# Altium schematic symbol library TFM_Schematics.SchLib: 30 symbols
Pins are listed as number, name and electrical type; pins without a type are passive.

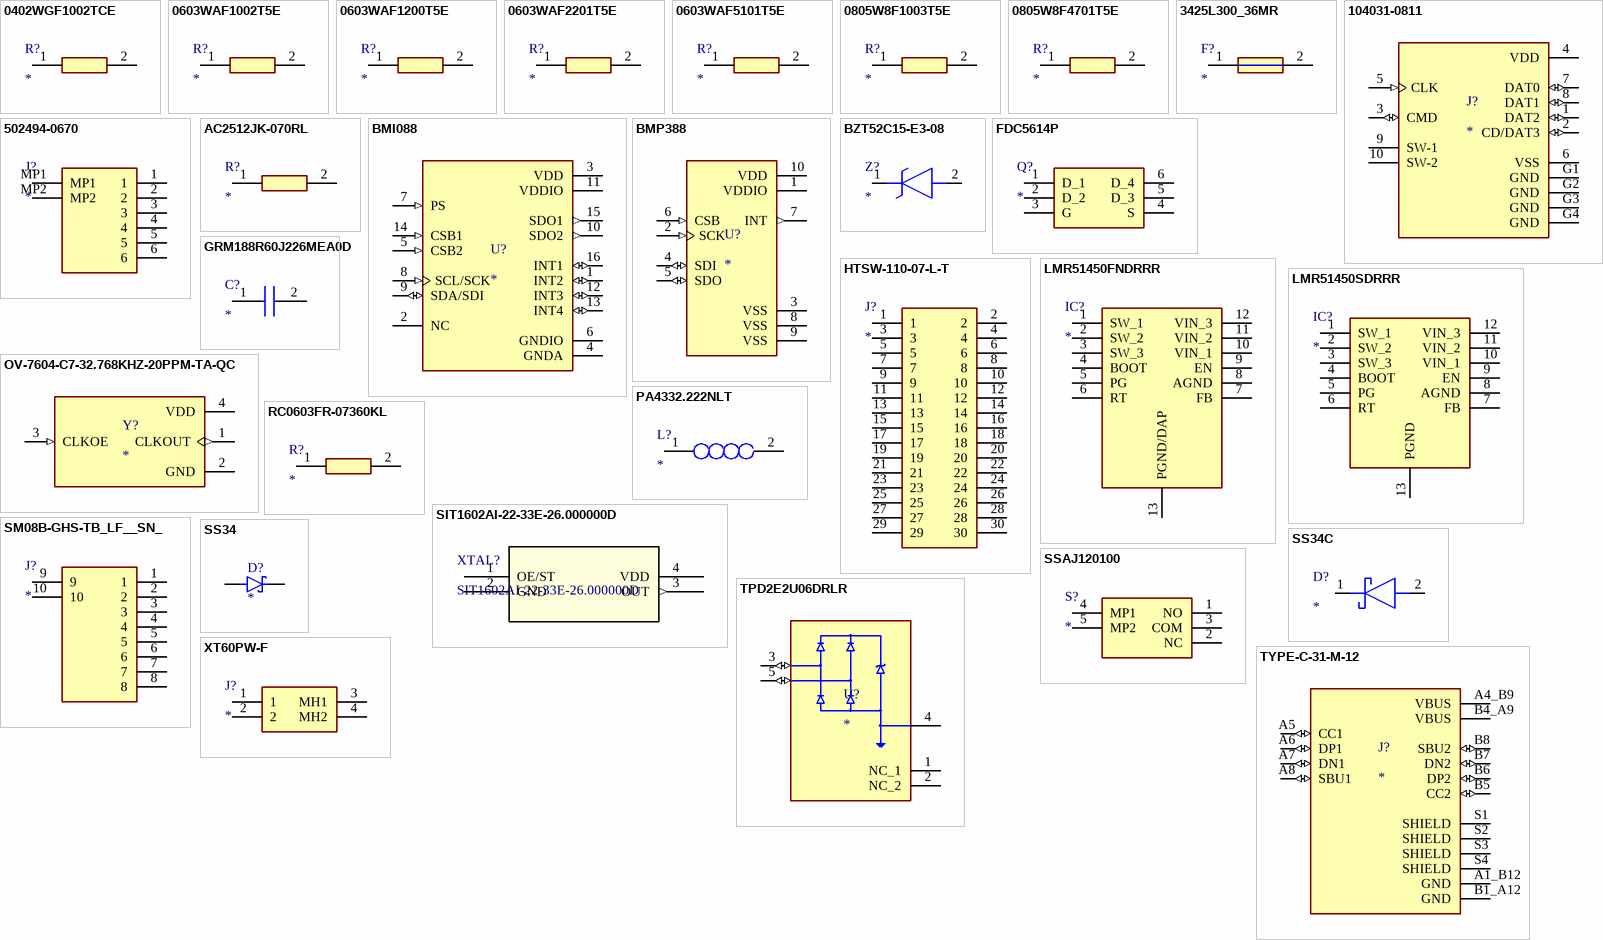
[diagram p0: symbols 0402WGF1002TCE to XT60PW-F]

## 0402WGF1002TCE
designator R?
Resistor; Manufacturer_Name: UNI-ROYAL(Uniroyal Elec); Manufacturer_Part_Number: 0402WGF1002TCE; Datasheet Link: https://datasheet.lcsc.com/szlcsc/Uniroyal-Elec-0402WGF1002TCE_C25744.pdf; Height: 0.4mm
footprint RESC1005X40N (Footprint not found)
pins: 1, 2

## 0603WAF1002T5E
designator R?
Resistor; Manufacturer_Name: ROYALOHM; Manufacturer_Part_Number: 0603WAF1002T5E; Datasheet Link: https://th.mouser.com/datasheet/2/1365/1-3044649.pdf; Height: 0.55mm; Mouser Part Number: 303-0603WAF1002T5E; Mouser Price/Stock: https://www.mouser.co.uk/ProductDetail/Royalohm/0603WAF1002T5E?qs=e8oIoAS2J1TC2D0IjbSyGA%3D%3D
footprint RESC1608X55N
pins: 1, 2

## 0603WAF1200T5E
designator R?
Resistor; Manufacturer_Name: ROYALOHM; Manufacturer_Part_Number: 0603WAF1200T5E; Datasheet Link: https://www.mouser.ch/datasheet/2/1365/1-3044649.pdf; Height: 0.55mm; Mouser Part Number: 303-0603WAF1200T5E; Mouser Price/Stock: https://www.mouser.co.uk/ProductDetail/Royalohm/0603WAF1200T5E?qs=e8oIoAS2J1TIzlbaXq7mcg%3D%3D
footprint RESC1608X55N
pins: 1, 2

## 0603WAF2201T5E
designator R?
Resistor; Manufacturer_Name: ROYALOHM; Manufacturer_Part_Number: 0603WAF2201T5E; Datasheet Link: https://www.mouser.com/datasheet/2/1365/1-3044649.pdf; Height: 0.55mm; Mouser Part Number: 303-0603WAF2201T5E; Mouser Price/Stock: https://www.mouser.co.uk/ProductDetail/Royalohm/0603WAF2201T5E?qs=e8oIoAS2J1Rz1NSs0bsVww%3D%3D
footprint RESC1608X55N
pins: 1, 2

## 0603WAF5101T5E
designator R?
Resistor; Manufacturer_Name: UNI-ROYAL(Uniroyal Elec); Manufacturer_Part_Number: 0603WAF5101T5E; Datasheet Link: https://datasheet.lcsc.com/szlcsc/Uniroyal-Elec-0603WAF5101T5E_C23186.pdf; Height: 0.55mm
footprint RESC1608X55N
pins: 1, 2

## 0805W8F1003T5E
designator R?
Resistor; Manufacturer_Name: ROYALOHM; Manufacturer_Part_Number: 0805W8F1003T5E; Datasheet Link: https://www.mouser.in/datasheet/2/1365/1-3044649.pdf; Height: 0.65mm; Mouser Part Number: 303-0805W8F1003T5E; Mouser Price/Stock: https://www.mouser.co.uk/ProductDetail/Royalohm/0805W8F1003T5E?qs=e8oIoAS2J1ShnA7x9P0k6g%3D%3D
footprint RESC2013X65N
pins: 1, 2

## 0805W8F4701T5E
designator R?
Resistor; Manufacturer_Name: UNI-ROYAL(Uniroyal Elec); Manufacturer_Part_Number: 0805W8F4701T5E; Datasheet Link: https://datasheet.lcsc.com/szlcsc/Uniroyal-Elec-0805W8F4701T5E_C17673.pdf; Height: 0.65mm
footprint RESC2013X65N
pins: 1, 2

## 3425L300_36MR
designator F?
Fuse; Manufacturer_Name: LITTELFUSE; Manufacturer_Part_Number: 3425L300/36MR; Datasheet Link: https://www.arrow.com/en/products/3425l30036mr/littelfuse?region=nac; Height: 1.4mm; Mouser Part Number: 576-3425L300/36MR; Mouser Price/Stock: https://www.mouser.co.uk/ProductDetail/Littelfuse/3425L300-36MR?qs=amGC7iS6iy%252BViy95vVWOuA%3D%3D; Arrow Part Number: 3425L300/36MR; Arrow Price/Stock: https://www.arrow.com/en/products/3425l30036mr/littelfuse?region=nac
footprint FUSC8664X140N
pins: 1, 2

## 104031-0811
designator J?
Surface Mount Micro SD Card Connector, with Push In Termination | Molex Incorporated 104031-0811; SnapEDA_Link: https://www.snapeda.com/parts/104031-0811/Molex/view-part/?ref=snap; Package: None; Value: *; MF: Molex; MP: 104031-0811; Check_prices: https://www.snapeda.com/parts/104031-0811/Molex/view-part/?ref=eda
footprint MOLEX_104031-0811
pins: 1 DAT2 (io), 2 CD/DAT3 (io), 3 CMD (io), 4 VDD (power), 5 CLK (in), 6 VSS (power), 7 DAT0 (io), 8 DAT1 (io), 9 SW-1, 10 SW-2, G1 GND (power), G2 GND (power), G3 GND (power), G4 GND (power)

## 502494-0670
designator J?
Connector; Manufacturer_Name: Molex; Manufacturer_Part_Number: 502494-0670; Datasheet Link: https://www.molex.com/content/dam/molex/molex-dot-com/products/automated/en-us/salesdrawingpdf/502/502494/5024940670_sd.pdf; Height: 7.1mm; Mouser Part Number: 538-502494-0670; Mouser Price/Stock: https://www.mouser.co.uk/ProductDetail/Molex/502494-0670?qs=zRnNmUVysJflJNy8qKc1Eg%3D%3D
footprint 5024940670
pins: 1, 2, 3, 4, 5, 6, MP1, MP2

## AC2512JK-070RL
designator R?
Resistor; Manufacturer_Name: YAGEO; Manufacturer_Part_Number: AC2512JK-070RL; Datasheet Link: https://www.yageo.com/upload/media/product/productsearch/datasheet/rchip/PYu-AC_51_RoHS_L_11.pdf; Height: 0.65mm
footprint RESC6431X65N
pins: 1, 2

## BMI088
designator U?
High-performance 6-axis inertial sensor (accelerometer + gyroscope) <a href="https://pricing.snapeda.com/parts/BMI088/Bosch%20Sensortec/view-part?ref=eda">Check prices</a>; MP: BMI088; Package: None; Value: *; Availability: Unavailable; Price: None
footprint PQFN50P450X300X100-16N
pins: 1 INT2 (io), 2 NC, 3 VDD (power), 4 GNDA (power), 5 CSB2 (in), 6 GNDIO (power), 7 PS (in), 8 SCL/SCK (in), 9 SDA/SDI (io), 10 SDO2 (out), 11 VDDIO (power), 12 INT3 (io), 13 INT4 (io), 14 CSB1 (in), 15 SDO1 (out), 16 INT1 (io)

## BMP388
designator U?
P-Sensor SPI I2C 1, 25 Bar SMD; MP: BMP388; Package: None; Price: None; Value: *; Availability: Unavailable
footprint PQFN50P200X200X80-10N
pins: 1 VDDIO (power), 2 SCK (in), 3 VSS (power), 4 SDI (io), 5 SDO (io), 6 CSB (in), 7 INT (out), 8 VSS (power), 9 VSS (power), 10 VDD (power)

## BZT52C15-E3-08
designator Z?
Zener Diode; Manufacturer_Name: Vishay; Manufacturer_Part_Number: BZT52C15-E3-08; Datasheet Link: https://www.vishay.com/docs/85760/bzt52.pdf; Height: 1.35mm; Mouser Part Number: 78-BZT52C15-E3-08; Mouser Price/Stock: https://www.mouser.co.uk/ProductDetail/Vishay-Semiconductors/BZT52C15-E3-08?qs=KP8Io%2FXyE5T2xU7%252Bcte76g%3D%3D; Arrow Part Number: BZT52C15-E3-08; Arrow Price/Stock: https://www.arrow.com/en/products/bzt52c15-e3-08/vishay?utm_currency=USD&region=nac
footprint SOD3716X135N
pins: 1 K, 2 A

## FDC5614P
designator Q?
Transistor BJT PNP; Manufacturer_Name: onsemi; Manufacturer_Part_Number: FDC5614P; Datasheet Link: https://www.onsemi.com/pub/Collateral/FDC5614P-D.PDF; Height: 1.1mm; Mouser Part Number: 512-FDC5614P; Mouser Price/Stock: https://www.mouser.co.uk/ProductDetail/onsemi-Fairchild/FDC5614P?qs=mdiO5HdF0KhXuzpCnxvnAg%3D%3D; Arrow Part Number: FDC5614P; Arrow Price/Stock: https://www.arrow.com/en/products/fdc5614p/on-semiconductor?region=nac
footprint SOT95P280X110-6N
pins: 1 D_1, 2 D_2, 3 G, 4 S, 5 D_3, 6 D_4

## GRM188R60J226MEA0D
designator C?
Capacitor; Manufacturer_Name: Murata Electronics; Manufacturer_Part_Number: GRM188R60J226MEA0D; Datasheet Link: https://search.murata.co.jp/Ceramy/image/img/A01X/G101/ENG/GRM188R60J226MEA0-01A.pdf; Height: 0.9mm; Mouser Part Number: 81-GRM188R60J226ME0D; Mouser Price/Stock: https://www.mouser.co.uk/ProductDetail/Murata-Electronics/GRM188R60J226MEA0D?qs=p%2FZgMVRdWRkAKoLX3oNjgw%3D%3D; Arrow Part Number: GRM188R60J226MEA0D; Arrow Price/Stock: https://www.arrow.com/en/products/grm188r60j226mea0d/murata-manufacturing?utm_currency=USD&region=nac
footprint CAPC1608X90N
pins: 1, 2

## HTSW-110-07-L-T
designator J?
Connector; Manufacturer_Name: SAMTEC; Manufacturer_Part_Number: HTSW-110-07-L-T; Datasheet Link: http://suddendocs.samtec.com/catalog_english/htsw_th.pdf; Height: 8.38mm; Mouser Part Number: 200-HTSW11007LT; Mouser Price/Stock: https://www.mouser.co.uk/ProductDetail/Samtec/HTSW-110-07-L-T?qs=Cqqh%252BS766wkQxTMjUucNrQ%3D%3D; Arrow Part Number: HTSW-110-07-L-T; Arrow Price/Stock: https://www.arrow.com/en/products/htsw-110-07-l-t/samtec?region=nac
footprint HDRV30W64P254_3X10_2540X756X838P
pins: 1, 2, 3, 4, 5, 6, 7, 8, 9, 10, 11, 12, 13, 14, 15, 16, 17, 18, 19, 20, 21, 22, 23, 24, 25, 26, 27, 28, 29, 30

## LMR51450FNDRRR
designator IC?
Integrated Circuit; Manufacturer_Name: Texas Instruments; Manufacturer_Part_Number: LMR51450FNDRRR; Datasheet Link: https://www.ti.com/lit/ds/symlink/lmr51450.pdf?ts=1681907573404&ref_url=https%253A%252F%252Fwww.ti.com%252Fproduct%252FLMR51450%252Fpart-details%252FLMR51450FNDRRR; Height: 0.8mm; Mouser Part Number: 595-LMR51450FNDRRR; Mouser Price/Stock: https://www.mouser.co.uk/ProductDetail/Texas-Instruments/LMR51450FNDRRR?qs=rQFj71Wb1eVWWBj0Ni4OAA%3D%3D; Arrow Part Number: LMR51450FNDRRR; Arrow Price/Stock: https://www.arrow.com/en/products/lmr51450fndrrr/texas-instruments?utm_currency=USD&region=nac
footprint SON50P300X300X80-13N-D
pins: 1 SW_1, 2 SW_2, 3 SW_3, 4 BOOT, 5 PG, 6 RT, 7 FB, 8 AGND, 9 EN, 10 VIN_1, 11 VIN_2, 12 VIN_3, 13 PGND/DAP

## LMR51450SDRRR
designator IC?
Integrated Circuit; Manufacturer_Name: Texas Instruments; Manufacturer_Part_Number: LMR51450SDRRR; Datasheet Link: https://www.ti.com/lit/ds/symlink/lmr51450.pdf?ts=1695888951673&ref_url=https%253A%252F%252Fwww.ti.com%252Fproduct%252FLMR51450%252Fpart-details%252FLMR51450SDRRR; Height: 0.8mm; Mouser Part Number: 595-LMR51450SDRRR; Mouser Price/Stock: https://www.mouser.co.uk/ProductDetail/Texas-Instruments/LMR51450SDRRR?qs=rQFj71Wb1eUvKinsjoLiUA%3D%3D; Arrow Part Number: LMR51450SDRRR; Arrow Price/Stock: https://www.arrow.com/en/products/lmr51450sdrrr/texas-instruments?utm_currency=USD&region=nac
footprint SON50P300X300X80-13N-D
pins: 1 SW_1, 2 SW_2, 3 SW_3, 4 BOOT, 5 PG, 6 RT, 7 FB, 8 AGND, 9 EN, 10 VIN_1, 11 VIN_2, 12 VIN_3, 13 PGND

## OV-7604-C7-32.768KHZ-20PPM-TA-QC
designator Y?
MF: {'manufacturer': u'Micro Crystal AG'}; MP: OV-7604-C7-32.768KHZ-20PPM-TA-QC; Package: None; Price: None; Value: *; Availability: Unavailable
footprint OSC_OV-7604-C7-32.768KHZ-20PPM-TA-QC
pins: 1 CLKOUT (out), 2 GND (power), 3 CLKOE (in), 4 VDD (power)

## PA4332.222NLT
designator L?
Inductor; Manufacturer_Name: PULSE; Manufacturer_Part_Number: PA4332.222NLT; Datasheet Link: https://datasheet.datasheetarchive.com/originals/distributors/DKDS-10/182650.pdf; Height: 2mm; Mouser Part Number: 673-PA4332222NLT; Mouser Price/Stock: https://www.mouser.co.uk/ProductDetail/Pulse-Electronics/PA4332.222NLT?qs=%2FzQKu7YvIMbE5ttuY4d%2Fzg%3D%3D; Arrow Part Number: PA4332.222NLT; Arrow Price/Stock: https://www.arrow.com/en/products/pa4332.222nlt/pulse-electronics-corporation?utm_currency=USD&region=nac
footprint INDPM4042X200N
pins: 1, 2

## RC0603FR-07360KL
designator R?
Resistor; Manufacturer_Name: KEMET; Manufacturer_Part_Number: RC0603FR-07360KL; Datasheet Link: http://www.yageo.com/documents/recent/PYu-RC0603_51_RoHS_L_v5.pdf; Height: 0.55mm; Mouser Part Number: 603-RC0603FR-07360KL; Mouser Price/Stock: https://www.mouser.co.uk/ProductDetail/Yageo/RC0603FR-07360KL/?qs=diQw95jMAePBWfaBve%2FwbQ%3D%3D
footprint RESC1608X55N
pins: 1, 2

## SIT1602AI-22-33E-26.000000D
designator XTAL?
No Description Available; Manufacturer_Name: SiTime; Copyright: Copyright (C) 2025 Ultra Librarian. All rights reserved.; Manufacturer_Part_Number: SIT1602AI-22-33E-26.000000D; RefDes: RefDes; Type: Type
footprint SON4_SIT1602-2_SIT
pins: 1 OE/ST, 2 GND (power), 3 OUT (out), 4 VDD (power)

## SM08B-GHS-TB_LF__SN_
designator J?
Connector; Manufacturer_Name: JST (JAPAN SOLDERLESS TERMINALS); Manufacturer_Part_Number: SM08B-GHS-TB(LF)(SN); Datasheet Link: http://www.jst-mfg.com/product/pdf/eng/eGH.pdf; Height: 4.05mm; Mouser Part Number: N/A; Mouser Price/Stock: https://www.mouser.co.uk/ProductDetail/JST-Commercial/SM08B-GHS-TBLFSN?qs=IKkN%2F947nfC94HDZLTJQXQ%3D%3D; Arrow Part Number: SM08B-GHS-TB(LF)(SN); Arrow Price/Stock: https://www.arrow.com/en/products/sm08b-ghs-tb-lf-sn/jst-manufacturing?utm_currency=USD&region=europe
footprint SM08BGHSTBLFSN (Footprint not found)
pins: 1, 2, 3, 4, 5, 6, 7, 8, 9, 10

## SS34
designator D?
Diode Schottky 40 V 3A Surface Mount SMC (DO-214AB); MF: onsemi; MP: SS34; SnapEDA_Link: https://www.snapeda.com/parts/SS34/Onsemi/view-part/?ref=snap; Package: SMC-2 ON Semiconductor; Value: *; Check_prices: https://www.snapeda.com/parts/SS34/Onsemi/view-part/?ref=eda
footprint DIOM7959X265N
pins: A, C K

## SS34C
designator D?
Schottky Diode; Manufacturer_Name: MDD; Manufacturer_Part_Number: SS34C; Datasheet Link: https://4donline.ihs.com/images/VipMasterIC/IC/DCNG/DCNGS00334/DCNGS00429-1.pdf?hkey=EF798316E3902B6ED9A73243A3159BB0; Height: 2.62mm
footprint DIOM7959X262N
pins: 1 K, 2 A

## SSAJ120100
designator S?
Switch; Manufacturer_Name: ALPS Electric; Manufacturer_Part_Number: SSAJ120100; Datasheet Link: https://tech.alpsalpine.com/e/products/detail/SSAJ120100/#ancFig2; Height: 0.9mm; Mouser Part Number: 688-SSAJ120100; Mouser Price/Stock: https://www.mouser.co.uk/ProductDetail/Alps-Alpine/SSAJ120100?qs=35GPJvxY%252Bl5mRNwFoBrl2g%3D%3D
footprint SSAJ120100
pins: 1 NO, 2 NC, 3 COM, 4 MP1, 5 MP2

## TPD2E2U06DRLR
designator U?
<a href="https://snapeda.com/parts/TPD2E2U06DRLR/Texas%20Instruments/view-part/?ref=eda">Check prices</a>; Price: None; Package: None; Availability: Unavailable; MP: TPD2E2U06DRLR; Value: *
footprint SOTFL50P160X60-5N
pins: 1 NC_1, 2 NC_2, 3 IO1 (io), 4 GND (power), 5 IO2 (io)

## TYPE-C-31-M-12
designator J?
USB Connectors 24 Receptacle 1 8.94*7.3mm RoHS; MF: HRO Electronics Co., Ltd.; MP: TYPE-C-31-M-12; SnapEDA_Link: https://www.snapeda.com/parts/TYPE-C-31-M-12/HRO+Electronics+Co.%252C+Ltd./view-part/?ref=snap; Package: Package; Value: *; Check_prices: https://www.snapeda.com/parts/TYPE-C-31-M-12/HRO+Electronics+Co.%252C+Ltd./view-part/?ref=eda
footprint HRO_TYPE-C-31-M-12
pins: A1_B12 GND (power), A4_B9 VBUS (power), A5 CC1 (io), A6 DP1 (io), A7 DN1 (io), A8 SBU1 (io), B1_A12 GND (power), B4_A9 VBUS (power), B5 CC2 (io), B6 DP2 (io), B7 DN2 (io), B8 SBU2 (io), S1 SHIELD, S2 SHIELD, S3 SHIELD, S4 SHIELD

## XT60PW-F
designator J?
Connector; Manufacturer_Name: Amass; Manufacturer_Part_Number: XT60PW-F; Datasheet Link: https://www.tme.eu/Document/1191bc2fa3aee3c446e5a895fd8f7983/XT60PW-F.pdf; Height: 8.4mm
footprint XT60PWF (Footprint not found)
pins: 1, 2, 3 MH1, 4 MH2